# Altium footprint library Potentiometers.PcbLib: 4 footprints
Each footprint in its own frame and in the unit in brackets; x right, y up, seen from the top. Pads: shape width x height; smd on the part's side, far side on the other; paste and mask are expansions set on the pad; w line width, h text height; cw(c..) or ccw(c..) is an arc to the next point about the centre after c.
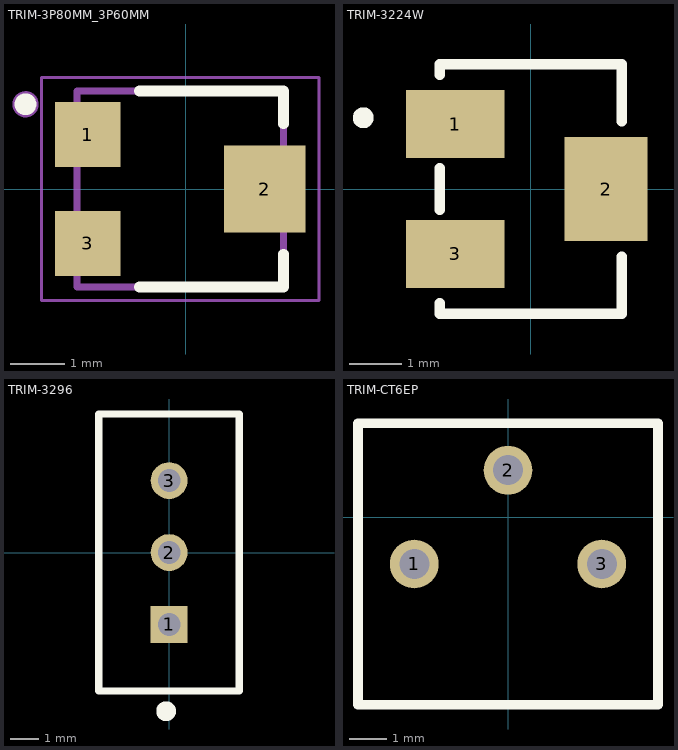
[diagram p0: the footprints below, top view; thin cyan lines are the x and y axes]

## TRIM-3P80MM_3P60MM [mm]
pads (3):
  rect 1.2x1.2 smd: 1(-1.8,1) 3(-1.8,-1)
  rect 1.5x1.6 smd: 2(1.45,0)
Top Overlay:
  circle w0.2: c-2.946,1.558 r0.1
  lines w0.2: -0.85,-1.8 1.8,-1.8 1.8,-1.2 ; -0.85,1.8 1.8,1.8 1.8,1.2
Mechanical 13:
  circle w0.24: c-2.946,1.558 r0.12
  lines w0.127: -2,-1.8 1.8,-1.8 1.8,1.8 -2,1.8 -2,-1.8
Mechanical 15:
  lines w0.05: -2.65,-2.05 2.45,-2.05 2.45,2.05 -2.65,2.05 -2.65,-2.05
3D body "step_temp.STEP": height 1.2, standoff 0, extent -1.9,-1.5 1.9,1.5

## TRIM-3224W [mm]
pads (3):
  rect 1.9x1.3 smd: 1(-1.45,1.25) 3(-1.45,-1.25)
  rect 1.6x2 smd: 2(1.45,0)
Top Overlay:
  circle w0.2: c-3.22,1.37 r0.1
  lines w0.2: -1.75,-2.2 -1.75,-2.4 1.75,-2.4 1.75,-1.3 ; -1.75,-0.4 -1.75,0.4 ; -1.75,2.2 -1.75,2.4 1.75,2.4 1.75,1.3
3D body "step_temp.STEP": height 5.3, standoff 0, extent -1.95,-2.4 1.95,2.4

## TRIM-3296 [mm]
pads (3):
  rect 1.3x1.3 hole 0.8 paste-2539.97 mask+0: 1(0.005,-2.54)
  round 1.3 hole 0.8 paste-2539.97 mask+0: 2(0.005,0) 3(0.005,2.54)
Top Overlay:
  circle w0.5: c-0.1,-5.6 r0.1
  lines w0.254: -2.48,-4.89 -2.48,4.89 2.48,4.89 2.48,-4.89 -2.48,-4.89
Top 3D Body:
  lines w0.2: -2.48,-4.89 -2.48,4.89 2.48,4.89 2.48,-4.89 -2.48,-4.89
3D body "3296W-V.stp": height 11.5, standoff -2.7, extent -2.4,-4.75 2.4,4.75

## TRIM-CT6EP [mm]
pads (3):
  round 1.3 hole 0.8: 1(-2.5,-1.25) 2(0,1.25) 3(2.5,-1.25)
Top Overlay:
  lines w0.254: -4,-5 -4,2.5 4,2.5 4,-5 -4,-5
3D body "CT-6EP1k_(102).stp": height 6, standoff -6.8, extent -3.5,-4.8 3.5,2.2